# Altium footprint library ti-packages.PcbLib: 27 footprints (part 1 of 2)
Each footprint in its own frame and in the unit in brackets; x right, y up, seen from the top. Pads: shape width x height; smd on the part's side, far side on the other; paste and mask are expansions set on the pad; w line width, h text height; cw(c..) or ccw(c..) is an arc to the next point about the centre after c.
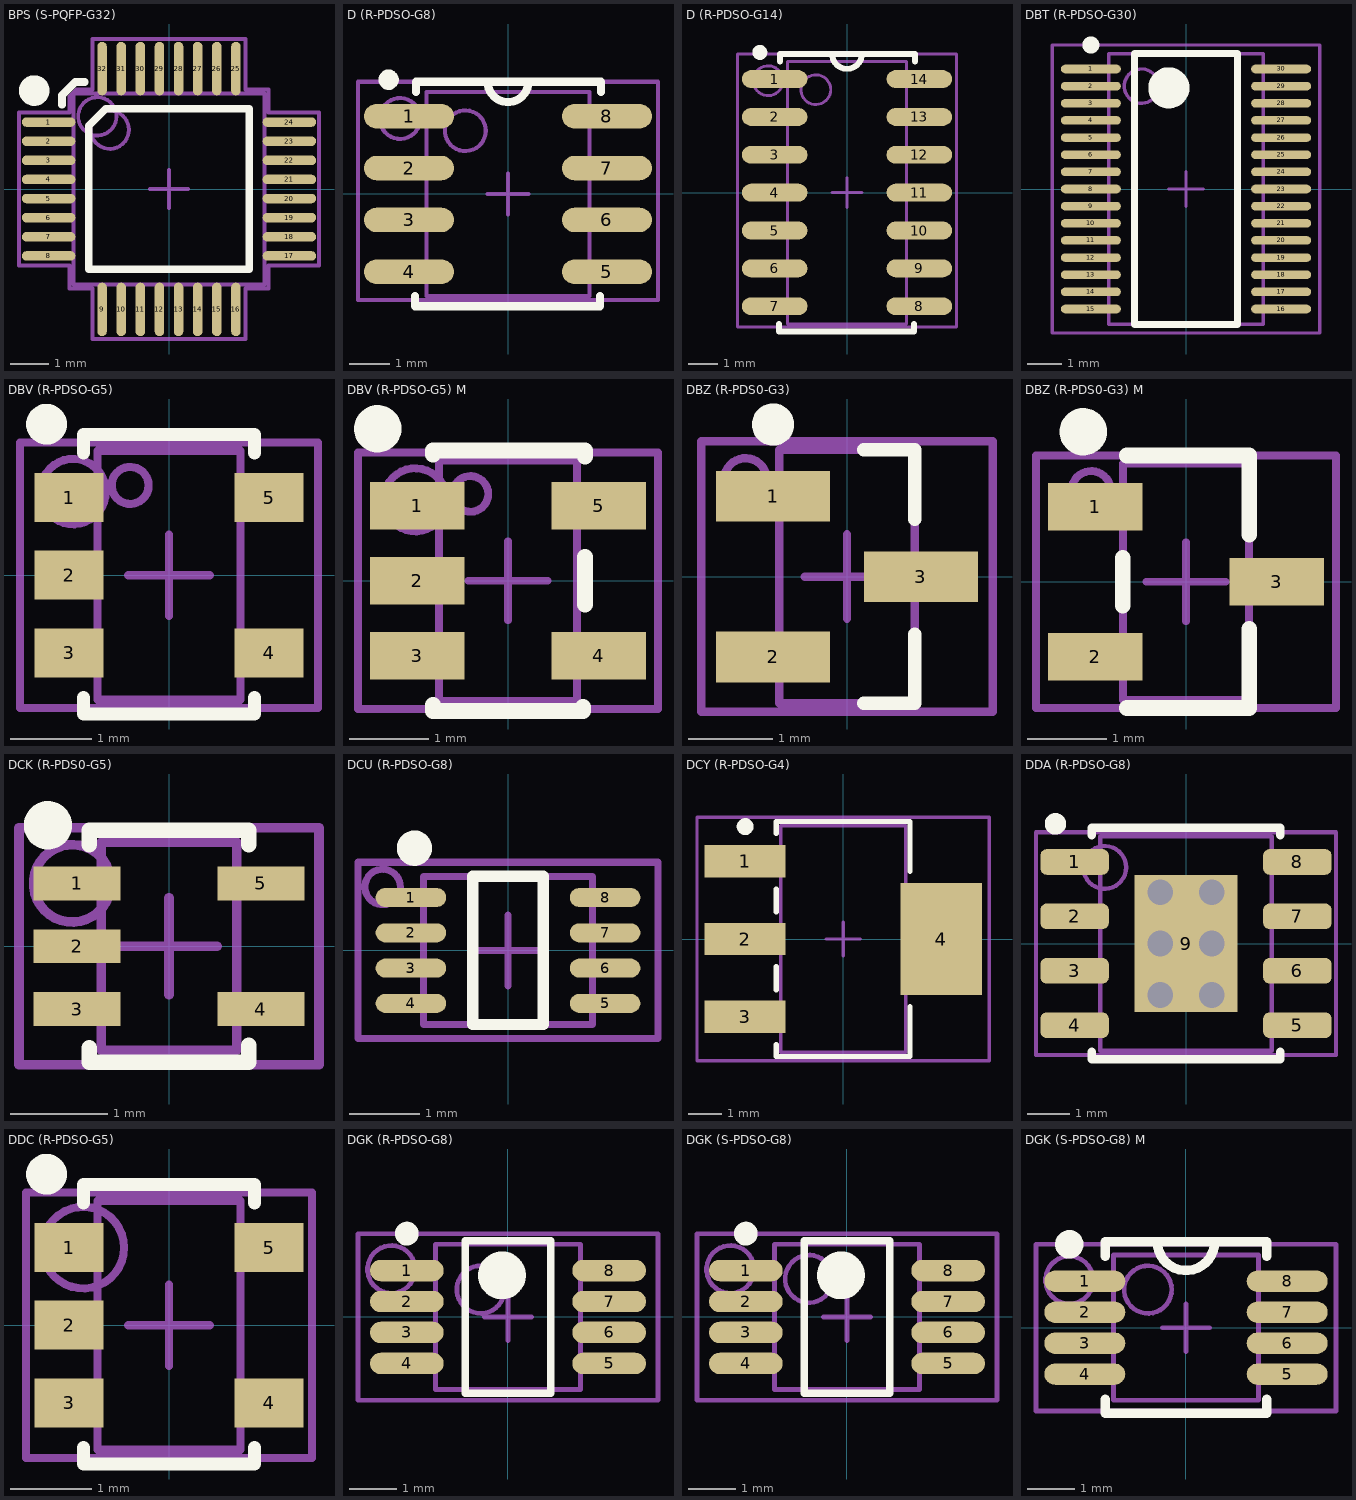
[diagram p0: the footprints below, top view; thin cyan lines are the x and y axes]

## BPS (S-PQFP-G32) [mm] "TSQFP, 32-Leads, Body 7.1x7.1mm (max), Pitch 0.50mm, IPC Medium Density"
height 1.2
pads (32):
  oval 1.4x0.25 smd: 1(-3.15,1.75) 2(-3.15,1.25) 3(-3.15,0.75) 4(-3.15,0.25) 5(-3.15,-0.25) 6(-3.15,-0.75) 7(-3.15,-1.25) 8(-3.15,-1.75) 17(3.15,-1.75) 18(3.15,-1.25) 19(3.15,-0.75) 20(3.15,-0.25) 21(3.15,0.25) 22(3.15,0.75) 23(3.15,1.25) 24(3.15,1.75)
  oval 0.25x1.4 smd: 9(-1.75,-3.15) 10(-1.25,-3.15) 11(-0.75,-3.15) 12(-0.25,-3.15) 13(0.25,-3.15) 14(0.75,-3.15) 15(1.25,-3.15) 16(1.75,-3.15) 25(1.75,3.15) 26(1.25,3.15) 27(0.75,3.15) 28(0.25,3.15) 29(-0.25,3.15) 30(-0.75,3.15) 31(-1.25,3.15) 32(-1.75,3.15)
Top Overlay:
  circle w0.4: c-3.525,2.575 r0.2
  lines w0.2: -2.8,2.2 -2.8,2.45 -2.45,2.8 -2.2,2.8 ; -2.1,-2.1 -2.1,1.65 -1.65,2.1 2.1,2.1 2.1,-2.1 -2.1,-2.1
Mechanical 13:
  circle w0.1: c-1.55,1.55 r0.5
  lines w0.1: -0.5,0 0.5,0 ; 0,-0.5 0,0.5 ; -2.5,-2.5 2.5,-2.5 2.5,2.5 -2.5,2.5 -2.5,-2.5
Mechanical 15:
  circle w0.1: c-1.875,1.9 r0.5
  lines w0.1: -3.925,-2 -3.925,2 -2.6,2 -2.6,2.425 -2.425,2.6 -2,2.6 -2,3.925 2,3.925 2,2.6 2.6,2.6 2.6,2 3.925,2 3.925,-2 2.6,-2 2.6,-2.6 2,-2.6 2,-3.925 -2,-3.925 -2,-2.6 -2.6,-2.6 -2.6,-2 -3.925,-2
  text ".Designator" at -1.788,-0.229 h0.5
3D body: height 1.35, standoff 0, extent -3.514,-3.514 3.514,3.514

## D (R-PDSO-G8) [mm] "Plastic Small Outline 8"
height 1.7
pads (8):
  oval 2.2x0.6 smd: 1(-2.425,1.905) 2(-2.425,0.635) 3(-2.425,-0.635) 4(-2.425,-1.905) 5(2.425,-1.905) 6(2.425,-0.635) 7(2.425,0.635) 8(2.425,1.905)
Top Overlay:
  circle w0.25: c-2.925,2.8 r0.125
  lines w0.2: -2.275,-2.5 -2.275,-2.75 2.25,-2.75 2.25,-2.5 ; -2.25,2.5 -2.25,2.75 2.275,2.75 2.275,2.5 ; -0.5,2.75 ccw(c0,2.75) 0.5,2.75
Mechanical 13:
  circle w0.1: c-1.045,1.55 r0.5
  lines w0.1: -0.5,0 0.5,0 ; 0,-0.5 0,0.5 ; -2,-2.5 2,-2.5 2,2.5 -2,2.5 -2,-2.5
Mechanical 15:
  circle w0.1: c-2.645,1.85 r0.5
  lines w0.1: -3.675,-2.6 3.675,-2.6 3.675,2.75 -3.675,2.75 -3.675,-2.6
  text ".Designator" at -0.1,2.375 h0.5
3D body: height 1.75, standoff 0, extent -2.9,-2.4 2.9,2.4

## D (R-PDSO-G14) [mm] "Plastic Small Outline 14"
height 1.7
pads (14):
  oval 2.2x0.6 smd: 1(-2.425,3.81) 2(-2.425,2.54) 3(-2.425,1.27) 4(-2.425,0) 5(-2.425,-1.27) 6(-2.425,-2.54) 7(-2.425,-3.81) 8(2.425,-3.81) 9(2.425,-2.54) 10(2.425,-1.27) 11(2.425,0) 12(2.425,1.27) 13(2.425,2.54) 14(2.425,3.81)
Top Overlay:
  circle w0.25: c-2.925,4.705 r0.125
  lines w0.2: -2.275,-4.405 -2.275,-4.655 2.25,-4.655 2.25,-4.405 ; -2.25,4.405 -2.25,4.655 2.275,4.655 2.275,4.405 ; -0.5,4.655 ccw(c0,4.655) 0.5,4.655
Mechanical 13:
  circle w0.1: c-1.045,3.455 r0.5
  lines w0.1: -0.5,0 0.5,0 ; 0,-0.5 0,0.5 ; -2,-4.405 2,-4.405 2,4.405 -2,4.405 -2,-4.405
Mechanical 15:
  circle w0.1: c-2.645,3.755 r0.5
  lines w0.1: -3.675,-4.505 3.675,-4.505 3.675,4.655 -3.675,4.655 -3.675,-4.505
  text ".Designator" at -0.635,1.905 h0.8
3D body: height 1.75, standoff 0, extent -3,-4.375 3,4.375

## DBT (R-PDSO-G30) [mm] "TSSOP, 30-Leads, Body 7.9x4.5mm (max), Pitch 0.50mm, IPC Medium Density"
height 1.2
pads (30):
  oval 1.75x0.25 smd: 1(-2.775,3.5) 2(-2.775,3) 3(-2.775,2.5) 4(-2.775,2) 5(-2.775,1.5) 6(-2.775,1) 7(-2.775,0.5) 8(-2.775,0) 9(-2.775,-0.5) 10(-2.775,-1) 11(-2.775,-1.5) 12(-2.775,-2) 13(-2.775,-2.5) 14(-2.775,-3) 15(-2.775,-3.5) 16(2.775,-3.5) 17(2.775,-3) 18(2.775,-2.5) 19(2.775,-2) 20(2.775,-1.5) 21(2.775,-1) 22(2.775,-0.5) 23(2.775,0) 24(2.775,0.5) 25(2.775,1) 26(2.775,1.5) 27(2.775,2) 28(2.775,2.5) 29(2.775,3) 30(2.775,3.5)
Top Overlay:
  circle w0.6: c-0.5,2.95 r0.3
  circle w0.25: c-2.775,4.2 r0.125
  lines w0.2: -1.5,-3.95 1.5,-3.95 1.5,3.95 -1.5,3.95 -1.5,-3.95
Mechanical 13:
  circle w0.1: c-1.3,3 r0.5
  lines w0.1: -0.5,0 0.5,0 ; 0,-0.5 0,0.5 ; -2.25,-3.95 2.25,-3.95 2.25,3.95 -2.25,3.95 -2.25,-3.95
Mechanical 15:
  lines w0.1: -3.9,-4.2 3.9,-4.2 3.9,4.2 -3.9,4.2 -3.9,-4.2
  text ".Designator" at 0.5,2.825 h0.5
3D body: height 1.35, standoff 0, extent -3.228,-3.95 3.228,3.95

## DBV (R-PDSO-G5) [mm] "SOT23, 5-Leads, Body 3.0x3.0mm (max), Pitch 0.95mm, IPC High Density"
height 1.45
pads (5):
  rect 0.85x0.6 smd: 1(-1.225,0.95) 2(-1.225,0) 3(-1.225,-0.95) 4(1.225,-0.95) 5(1.225,0.95)
Top Overlay:
  circle w0.25: c-1.5,1.85 r0.125
  lines w0.16: -1.05,-1.5 -1.05,-1.7 1.05,-1.7 1.05,-1.5 ; -1.05,1.5 -1.05,1.725 0.8,1.725 1.05,1.725 1.05,1.5
Mechanical 13:
  circle w0.1: c-0.476,1.1 r0.226
  lines w0.1: -0.5,0 0.5,0 ; 0,-0.5 0,0.5 ; -0.875,-1.525 0.875,-1.525 0.875,1.525 -0.875,1.525 -0.875,-1.525
Mechanical 15:
  circle w0.1: c-1.175,1.025 r0.4
  lines w0.1: -1.825,-1.625 1.825,-1.625 1.825,1.625 -1.825,1.625 -1.825,-1.625
  text ".Designator" at 0.225,-1.3 h0.5
3D body: height 1.09, standoff -0.01, extent -1.25,-1.5 1.25,1.5

## DBV (R-PDSO-G5) M [mm] "SOT23, 5-Leads, Body 3.0x3.0mm (max), Pitch 0.95mm, IPC Medium Density"
height 1.45
pads (5):
  rect 1.2x0.6 smd: 1(-1.15,0.95) 2(-1.15,0) 3(-1.15,-0.95) 4(1.15,-0.95) 5(1.15,0.95)
Top Overlay:
  circle w0.3: c-1.65,1.925 r0.15
  lines w0.2: -0.95,-1.575 -0.95,-1.65 0.95,-1.65 0.95,-1.6 ; -0.95,1.6 -0.95,1.65 0.975,1.65 0.975,1.575 ; 0.975,-0.3 0.975,0.3
Mechanical 13:
  circle w0.1: c-0.476,1.1 r0.226
  lines w0.1: -0.5,0 0.5,0 ; 0,-0.5 0,0.5 ; -0.875,-1.525 0.875,-1.525 0.875,1.525 -0.875,1.525 -0.875,-1.525
Mechanical 15:
  circle w0.1: c-1.175,1.025 r0.4
  lines w0.1: -1.9,-1.625 1.9,-1.625 1.9,1.625 -1.9,1.625 -1.9,-1.625
  text ".Designator" at -0.25,1.125 h0.5
3D body: height 1.09, standoff -0.01, extent -1.25,-1.5 1.25,1.5

## DBZ (R-PDS0-G3) [mm] "SOT23, 3-Leads, Body 3.0x2.8mm (max), Pitch 0.95mm, IPC High Density"
height 1.4
pads (3):
  rect 1.35x0.6 smd: 1(-0.875,0.95) 2(-0.875,-0.95) 3(0.875,0)
Top Overlay:
  circle w0.25: c-0.875,1.8 r0.125
  lines w0.16: 0.2,-1.5 0.8,-1.5 0.8,-0.68 ; 0.2,1.5 0.8,1.5 0.8,0.68
Mechanical 13:
  lines w0.1: -0.5,0 0.5,0 ; 0,-0.5 0,0.5 ; -0.8,-1.5 0.8,-1.5 0.8,1.5 -0.8,1.5 -0.8,-1.5
Mechanical 15:
  circle w0.1: c-1.201,1.15 r0.251
  lines w0.1: -1.725,-1.6 1.725,-1.6 1.725,1.6 -1.725,1.6 -1.725,-1.6
  text ".Designator" at -0.2,1.325 h0.5
3D body: height 1.02, standoff 0.02, extent -1.17,-1.46 1.17,1.46

## DBZ (R-PDS0-G3) M [mm] "SOT23, 3-Leads, Body 3.0x2.8mm (max), Pitch 0.95mm, Medium Density"
height 1.4
pads (3):
  rect 1.2x0.6 smd: 1(-1.15,0.95) 2(-1.15,-0.95) 3(1.15,0)
Top Overlay:
  circle w0.3: c-1.3,1.9 r0.15
  lines w0.2: -0.8,-0.3 -0.8,0.3 ; -0.75,-1.6 0.8,-1.6 0.8,-0.6 ; -0.75,1.6 0.8,1.6 0.8,0.6
Mechanical 13:
  lines w0.1: -0.5,0 0.5,0 ; 0,-0.5 0,0.5 ; -0.8,-1.5 0.8,-1.5 0.8,1.5 -0.8,1.5 -0.8,-1.5
Mechanical 15:
  circle w0.1: c-1.201,1.15 r0.251
  lines w0.1: -1.9,-1.6 1.9,-1.6 1.9,1.6 -1.9,1.6 -1.9,-1.6
  text ".Designator" at -0.2,1.325 h0.5
3D body: height 1.02, standoff 0.02, extent -1.17,-1.46 1.17,1.46

## DCK (R-PDS0-G5) [mm] "SOT223, 5-Leads, Body 2.2x2.4mm (max), Pitch 0.65mm, IPC Medium Density"
height 1.1
pads (5):
  rect 0.9x0.35 smd: 1(-0.95,0.65) 2(-0.95,0) 3(-0.95,-0.65) 4(0.95,-0.65) 5(0.95,0.65)
Top Overlay:
  circle w0.25: c-1.25,1.25 r0.125
  lines w0.16: -0.825,-1.05 -0.825,-1.2 0.825,-1.2 ; -0.825,1.05 -0.825,1.2 0.825,1.2 0.825,1.05 ; 0.825,-1.175 0.825,-1.025
Mechanical 13:
  lines w0.1: -0.5,0 0.5,0 ; 0,-0.5 0,0.5 ; -0.7,-1.075 0.7,-1.075 0.7,1.075 -0.7,1.075 -0.7,-1.075
Mechanical 15:
  circle w0.1: c-1,0.65 r0.4
  lines w0.1: -1.55,-1.225 1.55,-1.225 1.55,1.225 -1.55,1.225 -1.55,-1.225
  text ".Designator" at 0.2,-0.8 h0.5
3D body: height 0.94, standoff -0.01, extent -1.05,-1 1.05,1

## DCU (R-PDSO-G8) [mm] "TSSOP, 8-Leads, Body 2.1x2.4mm (max), Pitch 0.50mm, IPC Medium Density"
height 0.9
pads (8):
  oval 1x0.27 smd: 1(-1.375,0.75) 2(-1.375,0.25) 3(-1.375,-0.25) 4(-1.375,-0.75) 5(1.375,-0.75) 6(1.375,-0.25) 7(1.375,0.25) 8(1.375,0.75)
Top Overlay:
  circle w0.25: c-1.325,1.45 r0.125
  lines w0.16: -0.5,-1.05 -0.5,1.05 0.5,1.05 0.5,-1.05 -0.5,-1.05
Mechanical 13:
  lines w0.1: -0.5,0 0.5,0 ; 0,-0.5 0,0.5 ; -1.2,-1.05 -1.2,1.05 1.2,1.05 1.2,-1.05 -1.2,-1.05
Mechanical 15:
  circle w0.1: c-1.776,0.9 r0.251
  lines w0.1: -2.125,-1.25 -2.125,1.25 2.125,1.25 2.125,-1.25 -2.125,-1.25
  text ".Designator" at 0.275,-0.95 h0.5
3D body: height 0.83, standoff -0.02, extent -1.551,-1.15 1.551,1.15

## DCY (R-PDSO-G4) [mm] "SOT223, 4-Leads, Body 6.7x7.3mm (max), Pitch 2.30mm, IPC Medium Density"
height 1.8
pads (4):
  rect 2.4x0.95 smd: 1(-2.9,2.3) 2(-2.9,0) 3(-2.9,-2.3)
  rect 2.4x3.3 smd: 4(2.9,0)
Top Overlay:
  circle w0.25: c-2.9,3.325 r0.125
  lines w0.16: -1.975,-3.125 -1.975,-3.475 1.975,-3.475 1.975,-2 ; -1.975,-1.5 -1.975,-0.825 ; -1.975,0.8 -1.975,1.475 ; -1.975,3.125 -1.975,3.475 1.975,3.475 1.975,2
Mechanical 13:
  lines w0.1: -1.85,-3.35 1.85,-3.35 1.85,3.35 -1.85,3.35 -1.85,-3.35
  text ".Designator" at -0.1,2.575 h0.5
Mechanical 15:
  lines w0.1: -0.5,0 0.5,0 ; 0,-0.5 0,0.5 ; -4.325,-3.6 4.325,-3.6 4.325,3.6 -4.325,3.6 -4.325,-3.6
3D body: height 1.66, standoff -0.02, extent -3.48,-3.25 3.48,3.25

## DDA (R-PDSO-G8) [mm] "SOP, 8-Leads, Body 5.0x4.0mm (max), Pitch 1.27mm, IPC High Density"
height 1.75
pads (9):
  rrect50% 1.6x0.6 smd: 1(-2.6,1.905) 2(-2.6,0.635) 3(-2.6,-0.635) 4(-2.6,-1.905) 5(2.6,-1.905) 6(2.6,-0.635) 7(2.6,0.635) 8(2.6,1.905)
  rect 2.4x3.2 smd: 9(0,0)
via -0.6,1.2 diameter 0.8 hole 0.6
via 0.6,1.2 diameter 0.8 hole 0.6
via -0.6,0 diameter 0.8 hole 0.6
via 0.6,0 diameter 0.8 hole 0.6
via -0.6,-1.2 diameter 0.8 hole 0.6
via 0.6,-1.2 diameter 0.8 hole 0.6
Top Overlay:
  circle w0.25: c-3.046,2.794 r0.125
  lines w0.2: -2.2,-2.525 -2.2,-2.7 2.2,-2.7 2.2,-2.525 ; -2.2,2.525 -2.2,2.7 2.2,2.7 2.2,2.525
Mechanical 13:
  lines w0.1: -2,-2.5 -2,2.5 2,2.5 2,-2.5 -2,-2.5
Mechanical 15:
  circle w0.1: c-1.897,1.778 r0.5
  lines w0.1: -0.5,0 0.5,0 ; 0,-0.5 0,0.5 ; -3.5,-2.6 -3.5,2.6 3.5,2.6 3.5,-2.6 -3.5,-2.6
  text ".Designator" at -2.672,-0.2 h0.8
3D body: height 1.9, standoff 0, extent -3.028,-2.5 3.028,2.5

## DDC (R-PDSO-G5) [mm] "SOT23, 5-Leads, Body 3.0x3.0mm (max), Pitch 0.95mm, IPC High Density"
height 1.1
pads (5):
  rect 0.85x0.6 smd: 1(-1.225,0.95) 2(-1.225,0) 3(-1.225,-0.95) 4(1.225,-0.95) 5(1.225,0.95)
Top Overlay:
  circle w0.25: c-1.5,1.85 r0.125
  lines w0.16: -1.05,-1.5 -1.05,-1.7 1.05,-1.7 1.05,-1.5 ; -1.05,1.5 -1.05,1.725 0.8,1.725 1.05,1.725 1.05,1.5
Mechanical 13:
  lines w0.1: -0.5,0 0.5,0 ; 0,-0.5 0,0.5 ; -0.875,-1.525 -0.875,1.525 0.875,1.525 0.875,-1.525 -0.875,-1.525
Mechanical 15:
  circle w0.1: c-1.05,0.95 r0.5
  lines w0.1: -1.75,-1.625 -1.75,1.625 1.75,1.625 1.75,-1.625 -1.75,-1.625
  text ".Designator" at 0.225,-1.3 h0.8
3D body: height 1.09, standoff -0.01, extent -1.25,-1.5 1.25,1.5

## DGK (R-PDSO-G8) [mm] "8-MSOP"
height 1.07
pads (8):
  oval 1.55x0.45 smd: 1(-2.125,0.975) 2(-2.125,0.325) 3(-2.125,-0.325) 4(-2.125,-0.975) 5(2.125,-0.975) 6(2.125,-0.325) 7(2.125,0.325) 8(2.125,0.975)
Top Overlay:
  circle w0.6: c-0.127,0.875 r0.202
  circle w0.25: c-2.125,1.75 r0.125
  lines w0.16: -0.9,-1.6 0.9,-1.6 0.9,1.6 -0.9,1.6 -0.9,-1.6
Mechanical 13:
  circle w0.1: c-0.575,0.575 r0.5
  lines w0.1: -0.5,0 0.5,0 ; 0,-0.5 0,0.5 ; -1.525,-1.525 1.525,-1.525 1.525,1.525 -1.525,1.525 -1.525,-1.525
Mechanical 15:
  circle w0.1: c-2.45,1 r0.5
  lines w0.1: -3.15,-1.75 3.15,-1.75 3.15,1.75 -3.15,1.75 -3.15,-1.75
  text ".Designator" at 0.275,-1.425 h0.8
3D body: height 1.05, standoff -0.05, extent -2.469,-1.55 2.469,1.55

## DGK (S-PDSO-G8) [mm] "8-MSOP"
height 1.1
pads (8):
  oval 1.55x0.45 smd: 1(-2.125,0.975) 2(-2.125,0.325) 3(-2.125,-0.325) 4(-2.125,-0.975) 5(2.125,-0.975) 6(2.125,-0.325) 7(2.125,0.325) 8(2.125,0.975)
Top Overlay:
  circle w0.6: c-0.127,0.875 r0.202
  circle w0.25: c-2.125,1.75 r0.125
  lines w0.16: -0.9,-1.6 0.9,-1.6 0.9,1.6 -0.9,1.6 -0.9,-1.6
Mechanical 13:
  circle w0.1: c-0.8,0.8 r0.5
  lines w0.1: -0.5,0 0.5,0 ; 0,-0.5 0,0.5 ; -1.525,-1.525 1.525,-1.525 1.525,1.525 -1.525,1.525 -1.525,-1.525
Mechanical 15:
  circle w0.1: c-2.45,1 r0.5
  lines w0.1: -3.15,-1.75 3.15,-1.75 3.15,1.75 -3.15,1.75 -3.15,-1.75
  text ".Designator" at 0.6,-1.35 h0.8
3D body: height 1.05, standoff -0.05, extent -2.469,-1.55 2.469,1.55

## DGK (S-PDSO-G8) M [mm] "8-MSOP"
height 1.1
pads (8):
  oval 1.7x0.45 smd: 1(-2.125,0.975) 2(-2.125,0.325) 3(-2.125,-0.325) 4(-2.125,-0.975) 5(2.125,-0.975) 6(2.125,-0.325) 7(2.125,0.325) 8(2.125,0.975)
Top Overlay:
  circle w0.3: c-2.45,1.75 r0.15
  lines w0.2: -1.7,-1.5 -1.7,-1.8 1.7,-1.8 1.7,-1.5 ; -1.7,1.5 -1.7,1.8 1.7,1.8 1.7,1.5 ; -0.6,1.8 ccw(c0,1.8) 0.6,1.8
Mechanical 13:
  circle w0.1: c-0.8,0.8 r0.5
  lines w0.1: -0.5,0 0.5,0 ; 0,-0.5 0,0.5 ; -1.525,-1.525 1.525,-1.525 1.525,1.525 -1.525,1.525 -1.525,-1.525
Mechanical 15:
  circle w0.1: c-2.45,1 r0.5
  lines w0.1: -3.15,-1.75 3.15,-1.75 3.15,1.75 -3.15,1.75 -3.15,-1.75
  text ".Designator" at 0.6,-1.35 h0.8
3D body: height 1.05, standoff -0.05, extent -2.469,-1.55 2.469,1.55